# EAGLE library part JUMPER-2X8 (library QuantumOptics)
Jumper 2 x 8, 2 x 8 on a 0.1 grid.
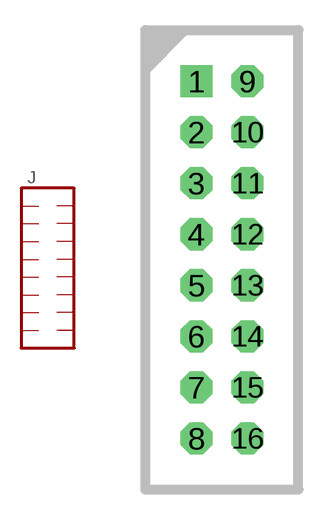
[diagram p19: symbol with the pads of JUMPER-2X8; footprint JUMPER-2X8]

Designator prefix J

## JUMPER-2X8  [JUMPER-2X8]
1  1
2  2
3  3
4  4
5  5
6  6
7  7
8  8
9  9
10  10
11  11
12  12
13  13
14  14
15  15
16  16

## Footprint JUMPER-2X8 (pad centres in mm)
Jumper 16-pin header, 2 rows of 8, vertical SIP on 0.1" grid.
drill 1.067 square: 1 -1.27,7.62
drill 1.067 octagon: 2 -1.27,5.08; 3 -1.27,2.54; 4 -1.27,0; 5 -1.27,-2.54; 6 -1.27,-5.08; 7 -1.27,-7.62; 8 -1.27,-10.16; 9 1.27,7.62; 10 1.27,5.08; 11 1.27,2.54; 12 1.27,0; 13 1.27,-2.54; 14 1.27,-5.08; 15 1.27,-7.62; 16 1.27,-10.16